# EAGLE library part MC34063AD (library MC34063AD)
Step up/down converter,MC34063AD 98pcs Source: Datasheet <http://www.onsemi.com/pub/Collateral/MC34063A-D.PDF>
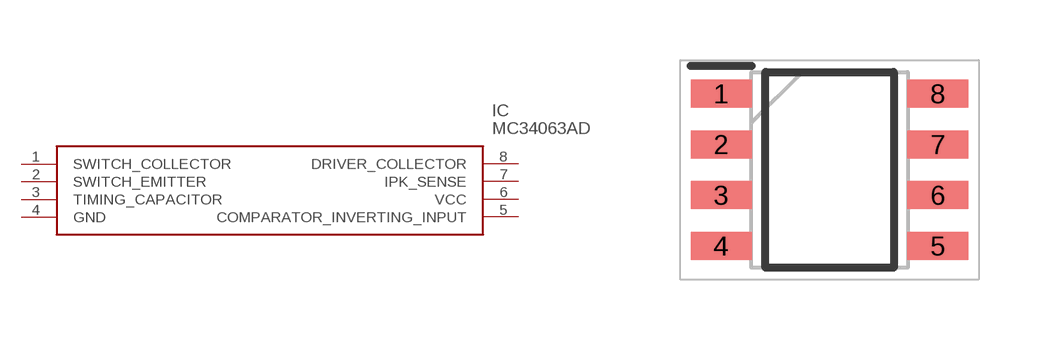
[diagram p0: symbol with the pads of SOIC127P600X175-8N; footprint SOIC127P600X175-8N]

Designator prefix IC

## MC34063AD (Arrow_Part_Number: MC34063AD; Arrow_Price-Stock: https://www.arrow.com/en/products/mc34063ad/on-semiconductor; Description: Step up/down converter,MC34063AD 98pcs; Height: 1.75mm; Manufacturer_Name: onsemi; Manufacturer_Part_Number: MC34063AD; Mouser_Part_Number: 512-MC34063AD; Mouser_Price-Stock: http://www.mouser.com/Search/ProductDetail.aspx?qs=qJQOsIEC8WHIuBHtgH5ZSQ%3d%3d)  [SOIC127P600X175-8N]
1  SWITCH_COLLECTOR
2  SWITCH_EMITTER
3  TIMING_CAPACITOR
4  GND
5  COMPARATOR_INVERTING_INPUT
6  VCC
7  IPK_SENSE
8  DRIVER_COLLECTOR

## Footprint SOIC127P600X175-8N (pad centres in mm)
8-Pin SOIC
smd 1.525 x 0.7: 1 -2.712,1.905; 2 -2.712,0.635; 3 -2.712,-0.635; 4 -2.712,-1.905; 5 2.712,-1.905; 6 2.712,-0.635; 7 2.712,0.635; 8 2.712,1.905